# Altium footprint library 39281083.PcbLib: 1 footprints
Each footprint in its own frame and in the unit in brackets; x right, y up, seen from the top. Pads: shape width x height; smd on the part's side, far side on the other; paste and mask are expansions set on the pad; w line width, h text height; cw(c..) or ccw(c..) is an arc to the next point about the centre after c.
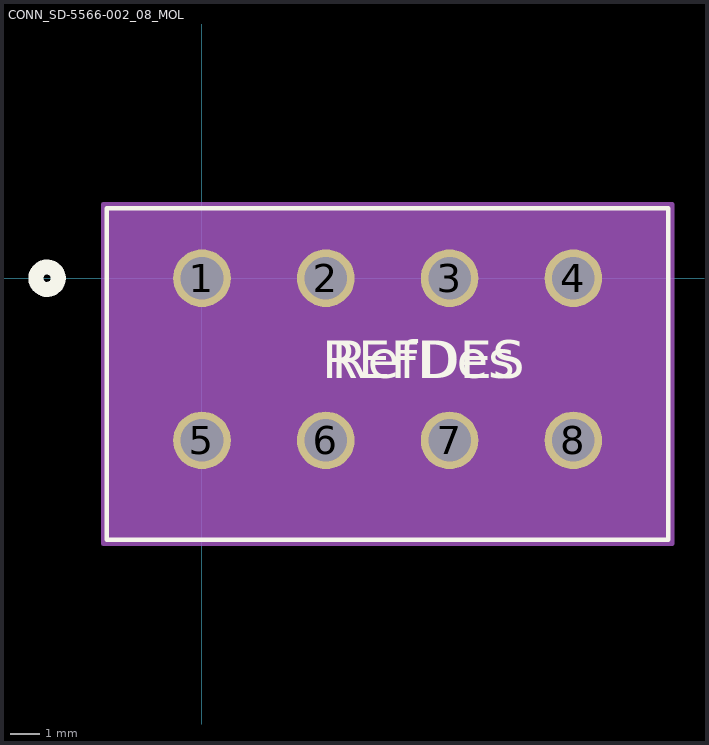
[diagram p0: the footprint, top view; thin cyan lines are the x and y axes]

## CONN_SD-5566-002_08_MOL [mil]
pads (8):
  round 77 / inner round 60 / far side round 77 hole 57 paste-38.5 mask+0: 1(0,0) 2(165.35,0) 3(330.71,0) 4(496.06,0) 5(0,-216.54) 6(165.35,-216.54) 7(330.71,-216.54) 8(496.06,-216.54)
Top Overlay:
  circle w20: c-206.97,0 r15
  lines w6: -126.97,-349.42 623.03,-349.42 623.03,93.58 -126.97,93.58 -126.97,-349.42
  text "RefDes" at 173.03,-133.27 h50
  text "REFDES" at 160.53,-133.27 h50
Bottom Overlay:
  circle w20: c-206.97,0 r15
Mechanical 13:
  circle w20: c0,0 r15
  lines w1: -121.97,-344.42 618.03,-344.42 618.03,88.58 -121.97,88.58 -121.97,-344.42
  text "RefDes2" at 160.53,-133.27 h50
Mechanical 15:
  region: 628.03,98.58 -131.97,98.58 -131.97,-354.42 628.03,-354.42
  lines w6: -131.97,-354.42 -131.97,98.58 628.03,98.58 628.03,-354.42 -131.97,-354.42